# EAGLE library part WEMOS-D1-MINI-BATTERY-SHIELD (library T-Stick)
Battery Shield Wemos D1
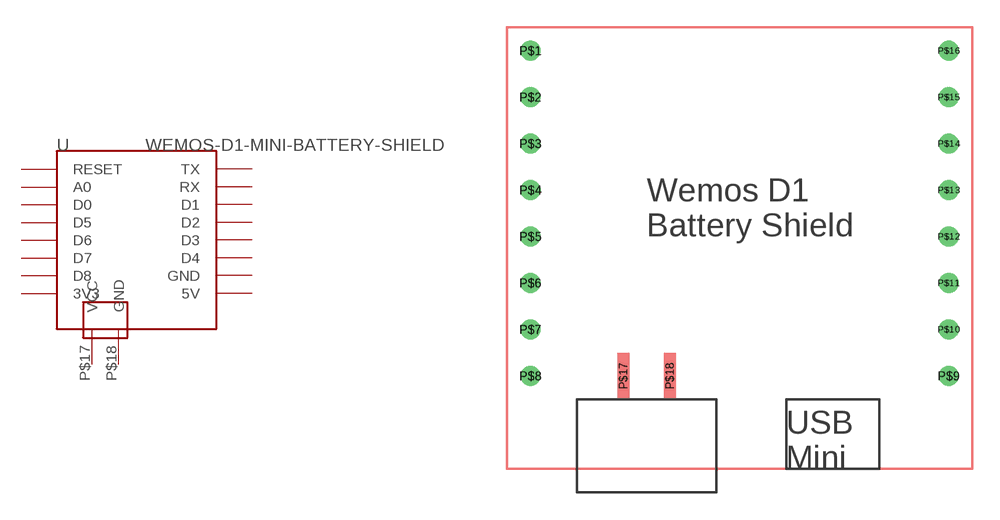
[diagram p3: symbol with the pads of WEMOS-D1-MINI-BATTERY-SHIELD; footprint WEMOS-D1-MINI-BATTERY-SHIELD]

Designator prefix -

## WEMOS-D1-MINI-BATTERY-SHIELD  [WEMOS-D1-MINI-BATTERY-SHIELD]
P$1  RESET
P$2  A0
P$3  D0
P$4  D5
P$5  D6
P$6  D7
P$7  D8
P$8  3V3
P$9  5V
P$10  GND
P$11  D4
P$12  D3
P$13  D2
P$14  D1
P$15  RX
P$16  TX
P$17  VCC
P$18  GND

## Footprint WEMOS-D1-MINI-BATTERY-SHIELD (pad centres in mm)
WeMos.cc D1 mini ESP8266 module
drill 0.6: P$1 0,0; P$2 0,-2.54; P$3 0,-5.08; P$4 0,-7.62; P$5 0,-10.16; P$6 0,-12.7; P$7 0,-15.24; P$8 0,-17.78; P$9 22.86,-17.78; P$10 22.86,-15.24; P$11 22.86,-12.7; P$12 22.86,-10.16; P$13 22.86,-7.62; P$14 22.86,-5.08; P$15 22.86,-2.54; P$16 22.86,0
smd 0.635 x 2.54: P$17 5.08,-17.78; P$18 7.62,-17.78